# Altium schematic symbol library 48406-0003.SchLib: 1 symbol
Pins are listed as number, name and electrical type; pins without a type are passive.

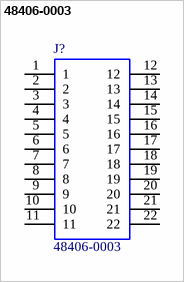
[diagram p0: symbol 48406-0003]

## 48406-0003
designator J?
USB Connectors USB 3.0 F/A STD RA REC STACKED 15u'; Manufacturer_Name: Molex; Geometry.Height: 15.65mm; Mouser Part Number: 538-48406-0003; Mouser Price/Stock: https://www.mouser.co.uk/ProductDetail/Molex/48406-0003?qs=KpdAywxU013TNkt7z6Qq8g%3D%3D; Manufacturer_Part_Number: 48406-0003; Datasheet Link: https://www.molex.com/pdm_docs/sd/484060003_sd.pdf
footprint MOLEX_67298-4090
pins: 1, 2, 3, 4, 5, 6, 7, 8, 9, 10, 11, 12, 13, 14, 15, 16, 17, 18, 19, 20, 21, 22